# Altium footprint library MAX2659ELT_T.PcbLib: 1 footprints
Each footprint in its own frame and in the unit in brackets; x right, y up, seen from the top. Pads: shape width x height; smd on the part's side, far side on the other; paste and mask are expansions set on the pad; w line width, h text height; cw(c..) or ccw(c..) is an arc to the next point about the centre after c.
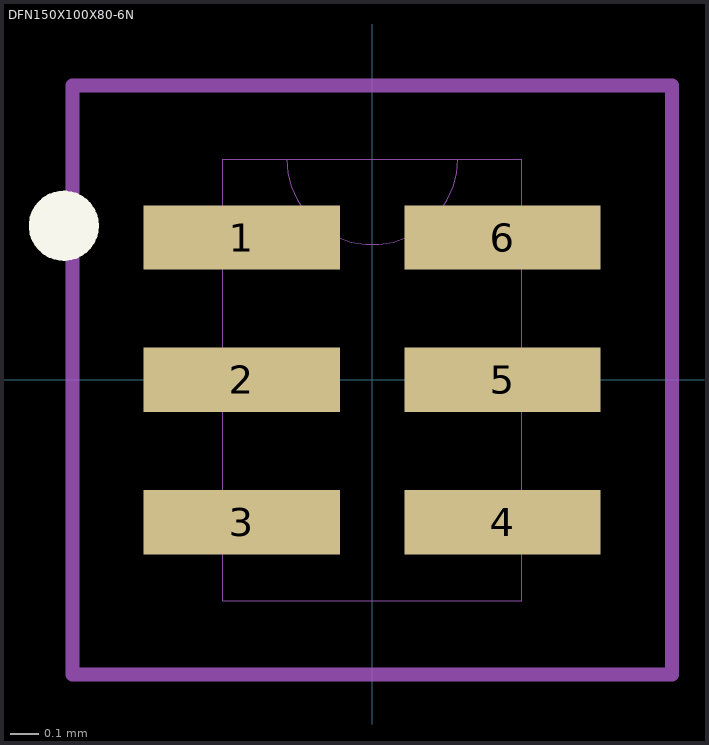
[diagram p0: the footprint, top view; thin cyan lines are the x and y axes]

## DFN150X100X80-6N [mm]
pads (6):
  rect 0.7x0.23 smd mask+0.05: 1(-0.465,0.508) 2(-0.465,0) 3(-0.465,-0.508) 4(0.465,-0.508) 5(0.465,0) 6(0.465,0.508)
Top Overlay:
  circle w0.05: c-1.1,0.5 r0.05
  circle w0.05: c-1.1,0.55 r0.05
  circle w0.05: c-1.1,0.55 r0.071
  circle w0.05: c-1.1,0.55 r0.071
  circle w0.05: c-1.1,0.55 r0.1
Mechanical 13:
  lines w0: -0.305,0.787 ccw(c0,0.787) 0.305,0.787 ; -0.305,0.787 -0.533,0.787 -0.533,-0.787 0.533,-0.787 0.533,0.787 0.305,0.787 ; -0.305,0.787 0.305,0.787
Mechanical 15:
  lines w0.05: -1.07,-1.05 1.07,-1.05 1.07,1.05 -1.07,1.05 -1.07,-1.05
3D body: height 0.74, standoff 0.02, extent -0.35,0.475 -0.15,0.675
3D body: height 0.7, standoff 0.02, extent -0.533,-0.787 0.533,0.787